# Altium integrated library WL-SWTP (rev20a).IntLib: 30 symbols
Pins are listed as number, name and electrical type; pins without a type are passive.

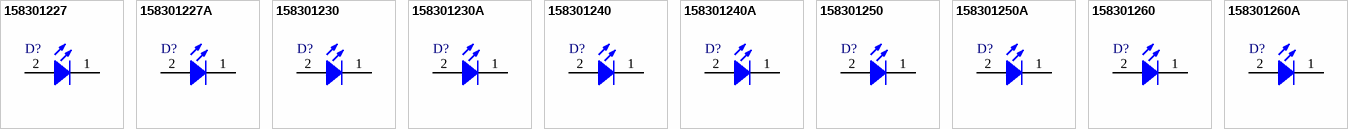
[diagram p0: symbols 158301227 to 158301260A]

## 158301227
designator D?
WL-SWTP SMT White Top view PLCC, size 3014, Sunrise, 3V, 120deg; Manufacturer: Wurth Elektronik; Manufacturer Part Number: 158301227; Color Rendering Index typ.: 85; Chip Technology: InGaN; Correlated Color Temperature typ.: 2700K; Luminous Flux typ.: 8lm; ComponentLink1Description: Manufacturer; ComponentLink1URL: http://www.we-online.de; ComponentLink2URL: https://www.we-online.com/catalog/datasheet/158301227.pdf; ComponentLink2Description: Datasheet; Forward Voltage typ.: 3V; Emitting Color: Sunrise; Mounting Technology: SMT; Operating Temperature: -40 to +85degC; Packaging: Tape and Reel; Published Date: September 2020; Viewing Angle: 120deg; Size: 3014
footprint WL-SWTP_3014_L3W1.4H0.8
pins: 1 K, 2 A

## 158301227A
designator D?
WL-SWTP SMT White Top view PLCC, size 3014, Sunrise, 2.8V, 120deg; Manufacturer: Wurth Elektronik; Manufacturer Part Number: 158301227A; Color Rendering Index typ.: 85; Chip Technology: AlInGaN; Correlated Color Temperature typ.: 2700K; Luminous Flux typ.: 26lm; ComponentLink1Description: Manufacturer; ComponentLink1URL: http://www.we-online.de; ComponentLink2URL: https://www.we-online.com/catalog/datasheet/158301227A.pdf; ComponentLink2Description: Datasheet; Forward Voltage typ.: 2.8V; Emitting Color: Sunrise; Mounting Technology: SMT; Operating Temperature: -40 to +85degC; Packaging: Tape and Reel; Published Date: September 2020; Viewing Angle: 120deg; Size: 3014
footprint WL-SWTP_3014_L3W1.4H0.65
pins: 1 K, 2 A

## 158301230
designator D?
WL-SWTP SMT White Top view PLCC, size 3014, Warm White, 3V, 120deg; Manufacturer: Wurth Elektronik; Manufacturer Part Number: 158301230; Color Rendering Index typ.: 85; Chip Technology: InGaN; Correlated Color Temperature typ.: 3000K; Luminous Flux typ.: 8lm; ComponentLink1Description: Manufacturer; ComponentLink1URL: http://www.we-online.de; ComponentLink2URL: https://www.we-online.com/catalog/datasheet/158301230.pdf; ComponentLink2Description: Datasheet; Forward Voltage typ.: 3V; Emitting Color: Warm White; Mounting Technology: SMT; Operating Temperature: -40 to +85degC; Packaging: Tape and Reel; Published Date: September 2020; Viewing Angle: 120deg; Size: 3014
footprint WL-SWTP_3014_L3W1.4H0.8
pins: 1 K, 2 A

## 158301230A
designator D?
WL-SWTP SMT White Top view PLCC, size 3014, Warm White, 2.8V, 120deg; Manufacturer: Wurth Elektronik; Manufacturer Part Number: 158301230A; Color Rendering Index typ.: 85; Chip Technology: AlInGaN; Correlated Color Temperature typ.: 3000K; Luminous Flux typ.: 26lm; ComponentLink1Description: Manufacturer; ComponentLink1URL: http://www.we-online.de; ComponentLink2URL: https://www.we-online.com/catalog/datasheet/158301230A.pdf; ComponentLink2Description: Datasheet; Forward Voltage typ.: 2.8V; Emitting Color: Warm White; Mounting Technology: SMT; Operating Temperature: -40 to +85degC; Packaging: Tape and Reel; Published Date: September 2020; Viewing Angle: 120deg; Size: 3014
footprint WL-SWTP_3014_L3W1.4H0.65
pins: 1 K, 2 A

## 158301240
designator D?
WL-SWTP SMT White Top view PLCC, size 3014, Moonlight, 3V, 120deg; Manufacturer: Wurth Elektronik; Manufacturer Part Number: 158301240; Color Rendering Index typ.: 85; Chip Technology: InGaN; Correlated Color Temperature typ.: 4000K; Luminous Flux typ.: 8.5lm; ComponentLink1Description: Manufacturer; ComponentLink1URL: http://www.we-online.de; ComponentLink2URL: https://www.we-online.com/catalog/datasheet/158301240.pdf; ComponentLink2Description: Datasheet; Forward Voltage typ.: 3V; Emitting Color: Moonlight; Mounting Technology: SMT; Operating Temperature: -40 to +85degC; Packaging: Tape and Reel; Published Date: September 2020; Viewing Angle: 120deg; Size: 3014
footprint WL-SWTP_3014_L3W1.4H0.8
pins: 1 K, 2 A

## 158301240A
designator D?
WL-SWTP SMT White Top view PLCC, size 3014, Moonlight, 2.8V, 120deg; Manufacturer: Wurth Elektronik; Manufacturer Part Number: 158301240A; Color Rendering Index typ.: 85; Chip Technology: AlInGaN; Correlated Color Temperature typ.: 4000K; Luminous Flux typ.: 26lm; ComponentLink1Description: Manufacturer; ComponentLink1URL: http://www.we-online.de; ComponentLink2URL: https://www.we-online.com/catalog/datasheet/158301240A.pdf; ComponentLink2Description: Datasheet; Forward Voltage typ.: 2.8V; Emitting Color: Moonlight; Mounting Technology: SMT; Operating Temperature: -40 to +85degC; Packaging: Tape and Reel; Published Date: September 2020; Viewing Angle: 120deg; Size: 3014
footprint WL-SWTP_3014_L3W1.4H0.65
pins: 1 K, 2 A

## 158301250
designator D?
WL-SWTP SMT White Top view PLCC, size 3014, Daylight, 3V, 120deg; Manufacturer: Wurth Elektronik; Manufacturer Part Number: 158301250; Color Rendering Index typ.: 85; Chip Technology: InGaN; Correlated Color Temperature typ.: 5000K; Luminous Flux typ.: 9lm; ComponentLink1Description: Manufacturer; ComponentLink1URL: http://www.we-online.de; ComponentLink2URL: https://www.we-online.com/catalog/datasheet/158301250.pdf; ComponentLink2Description: Datasheet; Forward Voltage typ.: 3V; Emitting Color: Daylight; Mounting Technology: SMT; Operating Temperature: -40 to +85degC; Packaging: Tape and Reel; Published Date: September 2020; Viewing Angle: 120deg; Size: 3014
footprint WL-SWTP_3014_L3W1.4H0.8
pins: 1 K, 2 A

## 158301250A
designator D?
WL-SWTP SMT White Top view PLCC, size 3014, Daylight, 2.8V, 120deg; Manufacturer: Wurth Elektronik; Manufacturer Part Number: 158301250A; Color Rendering Index typ.: 85; Chip Technology: AlInGaN; Correlated Color Temperature typ.: 5000K; Luminous Flux typ.: 26lm; ComponentLink1Description: Manufacturer; ComponentLink1URL: http://www.we-online.de; ComponentLink2URL: https://www.we-online.com/catalog/datasheet/158301250A.pdf; ComponentLink2Description: Datasheet; Forward Voltage typ.: 2.8V; Emitting Color: Daylight; Mounting Technology: SMT; Operating Temperature: -40 to +85degC; Packaging: Tape and Reel; Published Date: September 2020; Viewing Angle: 120deg; Size: 3014
footprint WL-SWTP_3014_L3W1.4H0.65
pins: 1 K, 2 A

## 158301260
designator D?
WL-SWTP SMT White Top view PLCC, size 3014, Cool White, 3V, 120deg; Manufacturer: Wurth Elektronik; Manufacturer Part Number: 158301260; Color Rendering Index typ.: 90; Chip Technology: InGaN; Correlated Color Temperature typ.: 6000K; Luminous Flux typ.: 9lm; ComponentLink1Description: Manufacturer; ComponentLink1URL: http://www.we-online.de; ComponentLink2URL: https://www.we-online.com/catalog/datasheet/158301260.pdf; ComponentLink2Description: Datasheet; Forward Voltage typ.: 3V; Emitting Color: Cool White; Mounting Technology: SMT; Operating Temperature: -40 to +85degC; Packaging: Tape and Reel; Published Date: September 2020; Viewing Angle: 120deg; Size: 3014
footprint WL-SWTP_3014_L3W1.4H0.8
pins: 1 K, 2 A

## 158301260A
designator D?
WL-SWTP SMT White Top view PLCC, size 3014, Cool White, 2.8V, 120deg; Manufacturer: Wurth Elektronik; Manufacturer Part Number: 158301260A; Color Rendering Index typ.: 85; Chip Technology: AlInGaN; Correlated Color Temperature typ.: 6000K; Luminous Flux typ.: 26lm; ComponentLink1Description: Manufacturer; ComponentLink1URL: http://www.we-online.de; ComponentLink2URL: https://www.we-online.com/catalog/datasheet/158301260A.pdf; ComponentLink2Description: Datasheet; Forward Voltage typ.: 2.8V; Emitting Color: Cool White; Mounting Technology: SMT; Operating Temperature: -40 to +85degC; Packaging: Tape and Reel; Published Date: September 2020; Viewing Angle: 120deg; Size: 3014
footprint WL-SWTP_3014_L3W1.4H0.65
pins: 1 K, 2 A


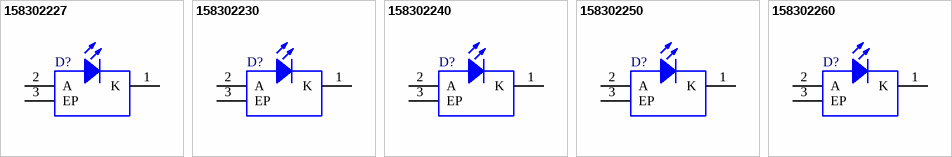
[diagram p1: symbols 158302227 to 158302260]

## 158302227
designator D?
WL-SWTP SMT White Top view PLCC, size 3022, Sunrise, 3.2V, 120deg; Manufacturer: Wurth Elektronik; Manufacturer Part Number: 158302227; Color Rendering Index typ.: 85; Chip Technology: InGaN; Correlated Color Temperature typ.: 2700K; Luminous Flux typ.: 20lm; ComponentLink1Description: Manufacturer; ComponentLink1URL: http://www.we-online.de; ComponentLink2URL: https://www.we-online.com/catalog/datasheet/158302227.pdf; ComponentLink2Description: Datasheet; Forward Voltage typ.: 3.2V; Emitting Color: Sunrise; Mounting Technology: SMT; Operating Temperature: -40 to +85degC; Packaging: Tape and Reel; Published Date: September 2020; Viewing Angle: 120deg; Size: 3022
footprint WL-SWTP_3022_L3W2.1H0.8
pins: 1 K, 2 A, 3 EP

## 158302230
designator D?
WL-SWTP SMT White Top view PLCC, size 3022, Warm White, 3.2V, 120deg; Manufacturer: Wurth Elektronik; Manufacturer Part Number: 158302230; Color Rendering Index typ.: 85; Chip Technology: InGaN; Correlated Color Temperature typ.: 3000K; Luminous Flux typ.: 20lm; ComponentLink1Description: Manufacturer; ComponentLink1URL: http://www.we-online.de; ComponentLink2URL: https://www.we-online.com/catalog/datasheet/158302230.pdf; ComponentLink2Description: Datasheet; Forward Voltage typ.: 3.2V; Emitting Color: Warm White; Mounting Technology: SMT; Operating Temperature: -40 to +85degC; Packaging: Tape and Reel; Published Date: September 2020; Viewing Angle: 120deg; Size: 3022
footprint WL-SWTP_3022_L3W2.1H0.8
pins: 1 K, 2 A, 3 EP

## 158302240
designator D?
WL-SWTP SMT White Top view PLCC, size 3022, Moonlight, 3.2V, 120deg; Manufacturer: Wurth Elektronik; Manufacturer Part Number: 158302240; Color Rendering Index typ.: 85; Chip Technology: InGaN; Correlated Color Temperature typ.: 4000K; Luminous Flux typ.: 22lm; ComponentLink1Description: Manufacturer; ComponentLink1URL: http://www.we-online.de; ComponentLink2URL: https://www.we-online.com/catalog/datasheet/158302240.pdf; ComponentLink2Description: Datasheet; Forward Voltage typ.: 3.2V; Emitting Color: Moonlight; Mounting Technology: SMT; Operating Temperature: -40 to +85degC; Packaging: Tape and Reel; Published Date: September 2020; Viewing Angle: 120deg; Size: 3022
footprint WL-SWTP_3022_L3W2.1H0.8
pins: 1 K, 2 A, 3 EP

## 158302250
designator D?
WL-SWTP SMT White Top view PLCC, size 3022, Daylight, 3.2V, 120deg; Manufacturer: Wurth Elektronik; Manufacturer Part Number: 158302250; Color Rendering Index typ.: 85; Chip Technology: InGaN; Correlated Color Temperature typ.: 5000K; Luminous Flux typ.: 22lm; ComponentLink1Description: Manufacturer; ComponentLink1URL: http://www.we-online.de; ComponentLink2URL: https://www.we-online.com/catalog/datasheet/158302250.pdf; ComponentLink2Description: Datasheet; Forward Voltage typ.: 3.2V; Emitting Color: Daylight; Mounting Technology: SMT; Operating Temperature: -40 to +85degC; Packaging: Tape and Reel; Published Date: September 2020; Viewing Angle: 120deg; Size: 3022
footprint WL-SWTP_3022_L3W2.1H0.8
pins: 1 K, 2 A, 3 EP

## 158302260
designator D?
WL-SWTP SMT White Top view PLCC, size 3022, Cool White, 3.2V, 120deg; Manufacturer: Wurth Elektronik; Manufacturer Part Number: 158302260; Color Rendering Index typ.: 90; Chip Technology: InGaN; Correlated Color Temperature typ.: 6000K; Luminous Flux typ.: 22lm; ComponentLink1Description: Manufacturer; ComponentLink1URL: http://www.we-online.de; ComponentLink2URL: https://www.we-online.com/catalog/datasheet/158302260.pdf; ComponentLink2Description: Datasheet; Forward Voltage typ.: 3.2V; Emitting Color: Cool White; Mounting Technology: SMT; Operating Temperature: -40 to +85degC; Packaging: Tape and Reel; Published Date: September 2020; Viewing Angle: 120deg; Size: 3022
footprint WL-SWTP_3022_L3W2.1H0.8
pins: 1 K, 2 A, 3 EP


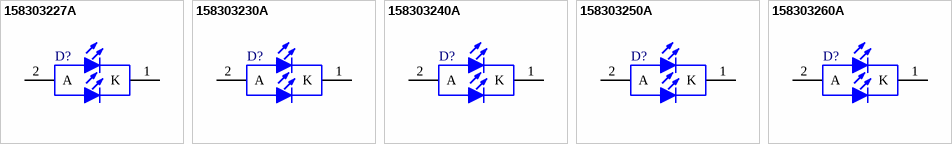
[diagram p2: symbols 158303227A to 158303260A]

## 158303227A
designator D?
WL-SWTP SMT White Top view PLCC, size 3030, Sunrise, 2.8V, 120deg; Manufacturer: Wurth Elektronik; Manufacturer Part Number: 158303227A; Color Rendering Index typ.: 85; Chip Technology: AlInGaN; Correlated Color Temperature typ.: 2700K; Luminous Flux typ.: 34lm; ComponentLink1Description: Manufacturer; ComponentLink1URL: http://www.we-online.de; ComponentLink2URL: https://www.we-online.com/catalog/datasheet/158303227A.pdf; ComponentLink2Description: Datasheet; Forward Voltage typ.: 2.8V; Emitting Color: Sunrise; Mounting Technology: SMT; Operating Temperature: -40 to +85degC; Packaging: Tape and Reel; Published Date: September 2020; Viewing Angle: 120deg; Size: 3030
footprint WL-SWTP_3030_L3W3H0.67
pins: 1 K, 2 A

## 158303230A
designator D?
WL-SWTP SMT White Top view PLCC, size 3030, Warm White, 2.8V, 120deg; Manufacturer: Wurth Elektronik; Manufacturer Part Number: 158303230A; Color Rendering Index typ.: 85; Chip Technology: AlInGaN; Correlated Color Temperature typ.: 3000K; Luminous Flux typ.: 34lm; ComponentLink1Description: Manufacturer; ComponentLink1URL: http://www.we-online.de; ComponentLink2URL: https://www.we-online.com/catalog/datasheet/158303230A.pdf; ComponentLink2Description: Datasheet; Forward Voltage typ.: 2.8V; Emitting Color: Warm White; Mounting Technology: SMT; Operating Temperature: -40 to +85degC; Packaging: Tape and Reel; Published Date: September 2020; Viewing Angle: 120deg; Size: 3030
footprint WL-SWTP_3030_L3W3H0.67
pins: 1 K, 2 A

## 158303240A
designator D?
WL-SWTP SMT White Top view PLCC, size 3030, Moonlight, 2.8V, 120deg; Manufacturer: Wurth Elektronik; Manufacturer Part Number: 158303240A; Color Rendering Index typ.: 85; Chip Technology: AlInGaN; Correlated Color Temperature typ.: 4000K; Luminous Flux typ.: 36lm; ComponentLink1Description: Manufacturer; ComponentLink1URL: http://www.we-online.de; ComponentLink2URL: https://www.we-online.com/catalog/datasheet/158303240A.pdf; ComponentLink2Description: Datasheet; Forward Voltage typ.: 2.8V; Emitting Color: Moonlight; Mounting Technology: SMT; Operating Temperature: -40 to +85degC; Packaging: Tape and Reel; Published Date: September 2020; Viewing Angle: 120deg; Size: 3030
footprint WL-SWTP_3030_L3W3H0.67
pins: 1 K, 2 A

## 158303250A
designator D?
WL-SWTP SMT White Top view PLCC, size 3030, Daylight, 2.8V, 120deg; Manufacturer: Wurth Elektronik; Manufacturer Part Number: 158303250A; Color Rendering Index typ.: 85; Chip Technology: AlInGaN; Correlated Color Temperature typ.: 5000K; Luminous Flux typ.: 36lm; ComponentLink1Description: Manufacturer; ComponentLink1URL: http://www.we-online.de; ComponentLink2URL: https://www.we-online.com/catalog/datasheet/158303250A.pdf; ComponentLink2Description: Datasheet; Forward Voltage typ.: 2.8V; Emitting Color: Daylight; Mounting Technology: SMT; Operating Temperature: -40 to +85degC; Packaging: Tape and Reel; Published Date: September 2020; Viewing Angle: 120deg; Size: 3030
footprint WL-SWTP_3030_L3W3H0.67
pins: 1 K, 2 A

## 158303260A
designator D?
WL-SWTP SMT White Top view PLCC, size 3030, Cool White, 2.8V, 120deg; Manufacturer: Wurth Elektronik; Manufacturer Part Number: 158303260A; Color Rendering Index typ.: 85; Chip Technology: AlInGaN; Correlated Color Temperature typ.: 6000K; Luminous Flux typ.: 36lm; ComponentLink1Description: Manufacturer; ComponentLink1URL: http://www.we-online.de; ComponentLink2URL: https://www.we-online.com/catalog/datasheet/158303260A.pdf; ComponentLink2Description: Datasheet; Forward Voltage typ.: 2.8V; Emitting Color: Cool White; Mounting Technology: SMT; Operating Temperature: -40 to +85degC; Packaging: Tape and Reel; Published Date: September 2020; Viewing Angle: 120deg; Size: 3030
footprint WL-SWTP_3030_L3W3H0.67
pins: 1 K, 2 A


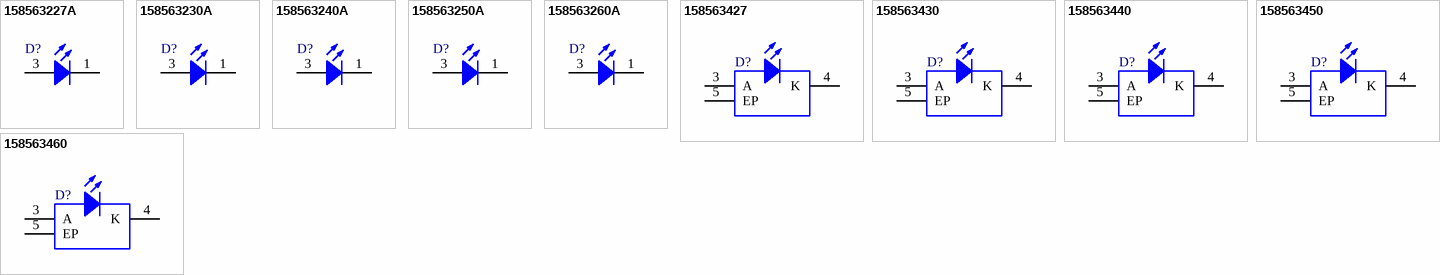
[diagram p3: symbols 158563227A to 158563460]

## 158563227A
designator D?
WL-SWTP SMT White Top view PLCC, size 5630, Sunrise, 2.8V, 120deg; Manufacturer: Wurth Elektronik; Manufacturer Part Number: 158563227A; Color Rendering Index typ.: 85; Chip Technology: InGaN; Correlated Color Temperature typ.: 2700K; Luminous Flux typ.: 32lm; ComponentLink1Description: Manufacturer; ComponentLink1URL: http://www.we-online.de; ComponentLink2URL: https://www.we-online.com/catalog/datasheet/158563227A.pdf; ComponentLink2Description: Datasheet; Forward Voltage typ.: 2.8V; Emitting Color: Sunrise; Mounting Technology: SMT; Operating Temperature: -40 to +85degC; Packaging: Tape and Reel; Published Date: September 2020; Viewing Angle: 120deg; Size: 5630
footprint WL-SWTP_5630_L5.6W3H0.6
pins: 1 K, 3 A

## 158563230A
designator D?
WL-SWTP SMT White Top view PLCC, size 5630, Warm White, 2.8V, 120deg; Manufacturer: Wurth Elektronik; Manufacturer Part Number: 158563230A; Color Rendering Index typ.: 85; Chip Technology: InGaN; Correlated Color Temperature typ.: 3000K; Luminous Flux typ.: 32lm; ComponentLink1Description: Manufacturer; ComponentLink1URL: http://www.we-online.de; ComponentLink2URL: https://www.we-online.com/catalog/datasheet/158563230A.pdf; ComponentLink2Description: Datasheet; Forward Voltage typ.: 2.8V; Emitting Color: Warm White; Mounting Technology: SMT; Operating Temperature: -40 to +85degC; Packaging: Tape and Reel; Published Date: September 2020; Viewing Angle: 120deg; Size: 5630
footprint WL-SWTP_5630_L5.6W3H0.6
pins: 1 K, 3 A

## 158563240A
designator D?
WL-SWTP SMT White Top view PLCC, size 5630, Moonlight, 2.8V, 120deg; Manufacturer: Wurth Elektronik; Manufacturer Part Number: 158563240A; Color Rendering Index typ.: 85; Chip Technology: InGaN; Correlated Color Temperature typ.: 4000K; Luminous Flux typ.: 32lm; ComponentLink1Description: Manufacturer; ComponentLink1URL: http://www.we-online.de; ComponentLink2URL: https://www.we-online.com/catalog/datasheet/158563240A.pdf; ComponentLink2Description: Datasheet; Forward Voltage typ.: 2.8V; Emitting Color: Moonlight; Mounting Technology: SMT; Operating Temperature: -40 to +85degC; Packaging: Tape and Reel; Published Date: September 2020; Viewing Angle: 120deg; Size: 5630
footprint WL-SWTP_5630_L5.6W3H0.6
pins: 1 K, 3 A

## 158563250A
designator D?
WL-SWTP SMT White Top view PLCC, size 5630, Daylight, 2.8V, 120deg; Manufacturer: Wurth Elektronik; Manufacturer Part Number: 158563250A; Color Rendering Index typ.: 85; Chip Technology: InGaN; Correlated Color Temperature typ.: 5000K; Luminous Flux typ.: 35lm; ComponentLink1Description: Manufacturer; ComponentLink1URL: http://www.we-online.de; ComponentLink2URL: https://www.we-online.com/catalog/datasheet/158563250A.pdf; ComponentLink2Description: Datasheet; Forward Voltage typ.: 2.8V; Emitting Color: Daylight; Mounting Technology: SMT; Operating Temperature: -40 to +85degC; Packaging: Tape and Reel; Published Date: September 2020; Viewing Angle: 120deg; Size: 5630
footprint WL-SWTP_5630_L5.6W3H0.6
pins: 1 K, 3 A

## 158563260A
designator D?
WL-SWTP SMT White Top view PLCC, size 5630, Cool White, 2.8V, 120deg; Manufacturer: Wurth Elektronik; Manufacturer Part Number: 158563260A; Color Rendering Index typ.: 85; Chip Technology: InGaN; Correlated Color Temperature typ.: 6000K; Luminous Flux typ.: 35lm; ComponentLink1Description: Manufacturer; ComponentLink1URL: http://www.we-online.de; ComponentLink2URL: https://www.we-online.com/catalog/datasheet/158563260A.pdf; ComponentLink2Description: Datasheet; Forward Voltage typ.: 2.8V; Emitting Color: Cool White; Mounting Technology: SMT; Operating Temperature: -40 to +85degC; Packaging: Tape and Reel; Published Date: September 2020; Viewing Angle: 120deg; Size: 5630
footprint WL-SWTP_5630_L5.6W3H0.6
pins: 1 K, 3 A

## 158563427
designator D?
WL-SWTP SMT White Top view PLCC, size 5630, Sunrise, 3V, 120deg; Manufacturer: Wurth Elektronik; Manufacturer Part Number: 158563427; Color Rendering Index typ.: 85; Chip Technology: InGaN; Correlated Color Temperature typ.: 2700K; Luminous Flux typ.: 34lm; ComponentLink1Description: Manufacturer; ComponentLink1URL: http://www.we-online.de; ComponentLink2URL: https://www.we-online.com/catalog/datasheet/158563427.pdf; ComponentLink2Description: Datasheet; Forward Voltage typ.: 3V; Emitting Color: Sunrise; Mounting Technology: SMT; Operating Temperature: -40 to +85degC; Packaging: Tape and Reel; Published Date: September 2020; Viewing Angle: 120deg; Size: 5630
footprint WL-SWTP_5630_L5.7W3H0.9
pins: 3 A, 4 K, 5 EP

## 158563430
designator D?
WL-SWTP SMT White Top view PLCC, size 5630, Warm White, 3V, 120deg; Manufacturer: Wurth Elektronik; Manufacturer Part Number: 158563430; Color Rendering Index typ.: 85; Chip Technology: InGaN; Correlated Color Temperature typ.: 3000K; Luminous Flux typ.: 34lm; ComponentLink1Description: Manufacturer; ComponentLink1URL: http://www.we-online.de; ComponentLink2URL: https://www.we-online.com/catalog/datasheet/158563430.pdf; ComponentLink2Description: Datasheet; Forward Voltage typ.: 3V; Emitting Color: Warm White; Mounting Technology: SMT; Operating Temperature: -40 to +85degC; Packaging: Tape and Reel; Published Date: September 2020; Viewing Angle: 120deg; Size: 5630
footprint WL-SWTP_5630_L5.7W3H0.9
pins: 3 A, 4 K, 5 EP

## 158563440
designator D?
WL-SWTP SMT White Top view PLCC, size 5630, Moonlight, 3V, 120deg; Manufacturer: Wurth Elektronik; Manufacturer Part Number: 158563440; Color Rendering Index typ.: 85; Chip Technology: InGaN; Correlated Color Temperature typ.: 4000K; Luminous Flux typ.: 36lm; ComponentLink1Description: Manufacturer; ComponentLink1URL: http://www.we-online.de; ComponentLink2URL: https://www.we-online.com/catalog/datasheet/158563440.pdf; ComponentLink2Description: Datasheet; Forward Voltage typ.: 3V; Emitting Color: Moonlight; Mounting Technology: SMT; Operating Temperature: -40 to +85degC; Packaging: Tape and Reel; Published Date: September 2020; Viewing Angle: 120deg; Size: 5630
footprint WL-SWTP_5630_L5.7W3H0.9
pins: 3 A, 4 K, 5 EP

## 158563450
designator D?
WL-SWTP SMT White Top view PLCC, size 5630, Daylight, 3V, 120deg; Manufacturer: Wurth Elektronik; Manufacturer Part Number: 158563450; Color Rendering Index typ.: 85; Chip Technology: InGaN; Correlated Color Temperature typ.: 5000K; Luminous Flux typ.: 39lm; ComponentLink1Description: Manufacturer; ComponentLink1URL: http://www.we-online.de; ComponentLink2URL: https://www.we-online.com/catalog/datasheet/158563450.pdf; ComponentLink2Description: Datasheet; Forward Voltage typ.: 3V; Emitting Color: Daylight; Mounting Technology: SMT; Operating Temperature: -40 to +85degC; Packaging: Tape and Reel; Published Date: September 2020; Viewing Angle: 120deg; Size: 5630
footprint WL-SWTP_5630_L5.7W3H0.9
pins: 3 A, 4 K, 5 EP

## 158563460
designator D?
WL-SWTP SMT White Top view PLCC, size 5630, Cool White, 3V, 120deg; Manufacturer: Wurth Elektronik; Manufacturer Part Number: 158563460; Color Rendering Index typ.: 90; Chip Technology: InGaN; Correlated Color Temperature typ.: 6000K; Luminous Flux typ.: 39lm; ComponentLink1Description: Manufacturer; ComponentLink1URL: http://www.we-online.de; ComponentLink2URL: https://www.we-online.com/catalog/datasheet/158563460.pdf; ComponentLink2Description: Datasheet; Forward Voltage typ.: 3V; Emitting Color: Cool White; Mounting Technology: SMT; Operating Temperature: -40 to +85degC; Packaging: Tape and Reel; Published Date: September 2020; Viewing Angle: 120deg; Size: 5630
footprint WL-SWTP_5630_L5.7W3H0.9
pins: 3 A, 4 K, 5 EP